# Altium integrated library AT0402BRD0710KL.IntLib: 1 symbol
Pins are listed as number, name and electrical type; pins without a type are passive.

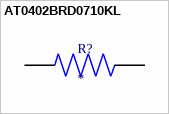
[diagram p0: symbol AT0402BRD0710KL]

## AT0402BRD0710KL
designator R?
AT 0402 (1005) Paper tape 07 inch Dia. reel 10,000 0.1% 1/16 (0.063) Watts; MF: Yageo; MP: AT0402BRD0710KL; SnapEDA_Link: https://www.snapeda.com/parts/AT0402BRD0710KL/Yageo/view-part/?ref=snap; Package: 1005 Yageo; Value: *; Check_prices: https://www.snapeda.com/parts/AT0402BRD0710KL/Yageo/view-part/?ref=eda
footprint RESC1005X35N
pins: 1, 2